# Altium schematic symbol library 4AE_LM_update.SCHLIB: 23 symbols
Pins are listed as number, name and electrical type; pins without a type are passive.

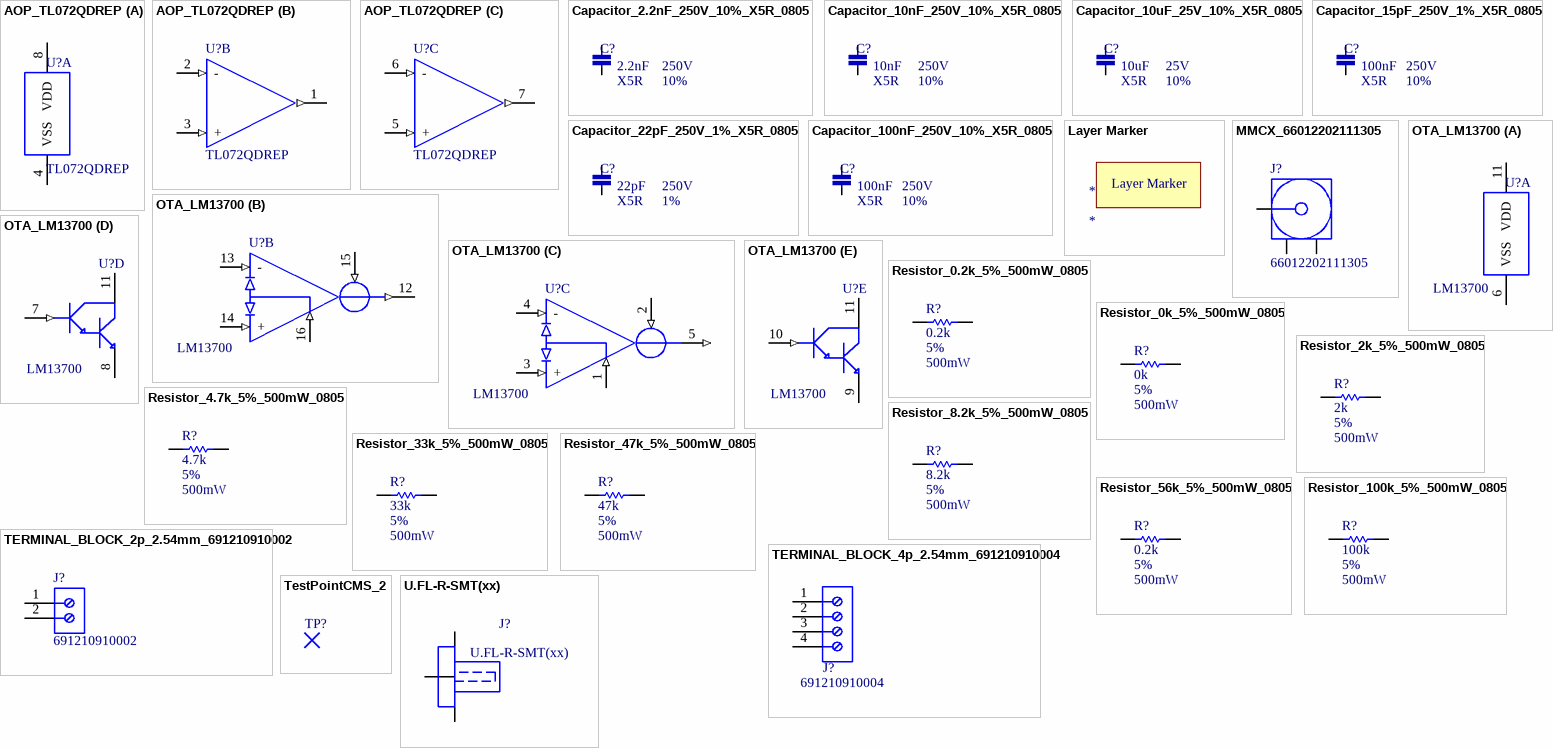
[diagram p0: symbols AOP_TL072QDREP to U.FL-R-SMT(xx)]

## AOP_TL072QDREP
designator U?  Ref: TL072QDREP  (hidden comment: AOP_TL072QDREP)
low noise Jfet input amplifier; Constructor: Texas Instruments; Type: Semiconductors
footprint SOIC8
part A pins: 4 VSS (power), 8 VDD (power)
part B pins: 1 outA (out), 2 - (in), 3 + (in)
part C pins: 5 + (in), 6 - (in), 7 outB (out)

## Capacitor_2.2nF_250V_10%_X5R_0805
designator C?  value 2.2nF  Tol: 10%  Tension: 250V  Tech: X5R
Capacitor 2.2nF 250V 10% X5R 0805; Constructor: KEMET; Type: Passive; Ref: C0805C104K1RACTU; Supplier 1: Arrow Electronics; Supplier Part Number 1: GRM21AR72E222KW01D
footprint 0805
pins: 1, 2

## Capacitor_10nF_250V_10%_X5R_0805
designator C?  value 10nF  Tol: 10%  Tension: 250V  Tech: X5R
Capacitor 10nF 250V 10% X5R 0805; Constructor: KEMET; Type: Passive; Ref: C0805C104K1RACTU; Supplier 1: Arrow Electronics; Supplier Part Number 1: GRM21BR72E103KW03L
footprint 0805
pins: 1, 2

## Capacitor_10uF_25V_10%_X5R_0805
designator C?  value 10uF  Tol: 10%  Tension: 25V  Tech: X5R
Capacitor 10uF 25V 10% X5R 0805; Constructor: KEMET; Type: Passive; Ref: C0805C104K1RACTU; Supplier 1: Arrow Electronics; Supplier Part Number 1: GRM21BR61E106KA73L
footprint 0805
pins: 1, 2

## Capacitor_15pF_250V_1%_X5R_0805
designator C?  value 100nF  Tol: 10%  Tension: 250V  Tech: X5R
Capacitor 15pF 250V 1% X5R 0805; Constructor: KEMET; Type: Passive; Ref: C0805C104K1RACTU; Supplier 1: Mouser; Supplier Part Number 1: 81-GRM21A5C2E150FW1D
footprint 0805
pins: 1, 2

## Capacitor_22pF_250V_1%_X5R_0805
designator C?  value 22pF  Tol: 1%  Tension: 250V  Tech: X5R
Capacitor 22pF 250V 10% X5R 0805; Constructor: KEMET; Type: Passive; Ref: C0805C104K1RACTU; Supplier 1: Mouser; Supplier Part Number 1: 81-GRM21A5C2E220FW1D
footprint 0805
pins: 1, 2

## Capacitor_100nF_250V_10%_X5R_0805
designator C?  value 100nF  Tol: 10%  Tension: 250V  Tech: X5R
Capacitor 100nF 250V 10% X5R 0805; Constructor: KEMET; Type: Passive; Ref: C0805C104K1RACTU; Supplier 1: Digi-Key; Supplier Part Number 1: 490-12005-1-ND
footprint 0805
pins: 1, 2

## Layer Marker
designator *  (no BOM)
Constructor: NA; Value: Layer Marker; Type: No Bom
footprint 2_Layer_Marker

## MMCX_66012202111305
designator J?  Ref: 66012202111305  (hidden comment: MMCX_66012202111305)
Connecteur MMCX  horizontal SMD; Constructor: Wurth; Type: Connector
footprint MMCX_66012202111305 (Footprint not found)
pins: 1 Signal "Signal Pin", 2 GND (power), 3 GND (power)

## OTA_LM13700
designator U?, comment LM13700
OTA; Constructor: Texas Instruments; Type: Semiconductors; Ref: LM13700
footprint SOIC16L
part A pins: 6 VSS (power), 11 VDD (power)
part B pins: 12 outA (out), 13 - (in), 14 + (in), 15 (in), 16 (in)
part C pins: 1 (in), 2 (in), 3 + (in), 4 - (in), 5 (in)
part D pins: 7 (in), 8 (power), 11 VDD (power)
part E pins: 9 (power), 10 (in), 11 VDD (power)

## Resistor_0.2k_5%_500mW_0805
designator R?  value 0.2k  Tol: 5%  Power: 500mW
Resistor  0.2k 5% 500mW 0805; Constructor: Panasonic; Ref: CRCW080510K0FKEA; Voltage: 150V; Type: Vishay; Supplier 1: Digi-Key; Supplier Part Number 1: 511-SDR10EZPJ200CT-ND
footprint 0805_RES
pins: 1, 2

## Resistor_0k_5%_500mW_0805
designator R?  value 0k  Tol: 5%  Power: 500mW
Resistor  0k 5% 500mW 0805; Constructor: Panasonic; Ref: CRCW080510K0FKEA; Voltage: 150V; Type: Vishay; Supplier 1: Digi-Key; Supplier Part Number 1: 511-PMR10EZPJ000CT-ND
footprint 0805_RES
pins: 1, 2

## Resistor_2k_5%_500mW_0805
designator R?  value 2k  Tol: 5%  Power: 500mW
Resistor  2k 5% 500mW 0805; Constructor: Panasonic; Ref: CRCW080510K0FKEA; Voltage: 150V; Type: Vishay; Supplier 1: Digi-Key; Supplier Part Number 1: 511-SDR10EZPJ202CT-ND
footprint 0805_RES
pins: 1, 2

## Resistor_4.7k_5%_500mW_0805
designator R?  value 4.7k  Tol: 5%  Power: 500mW
Resistor  4.7k 5% 500mW 0805; Constructor: Panasonic; Ref: CRCW080510K0FKEA; Voltage: 150V; Type: Vishay; Supplier 1: Digi-Key; Supplier Part Number 1: 511-SDR10EZPJ472CT-ND
footprint 0805_RES
pins: 1, 2

## Resistor_8.2k_5%_500mW_0805
designator R?  value 8.2k  Tol: 5%  Power: 500mW
Resistor  8.2k 5% 500mW 0805; Constructor: Panasonic; Ref: CRCW080510K0FKEA; Voltage: 150V; Type: Vishay; Supplier 1: Digi-Key; Supplier Part Number 1: 511-SFR10EZPF8201CT-ND
footprint 0805_RES
pins: 1, 2

## Resistor_33k_5%_500mW_0805
designator R?  value 33k  Tol: 5%  Power: 500mW
Resistor  33k 5% 500mW 0805; Constructor: Panasonic; Ref: CRCW080510K0FKEA; Voltage: 150V; Type: Vishay; Supplier 1: Digi-Key; Supplier Part Number 1: 511-SDR10EZPJ333CT-ND
footprint 0805_RES
pins: 1, 2

## Resistor_47k_5%_500mW_0805
designator R?  value 47k  Tol: 5%  Power: 500mW
Resistor  47k 5% 500mW 0805; Constructor: Panasonic; Ref: CRCW080510K0FKEA; Voltage: 150V; Type: Vishay; Supplier 1: Digi-Key; Supplier Part Number 1: 511-SDR10EZPJ473CT-ND
footprint 0805_RES
pins: 1, 2

## Resistor_56k_5%_500mW_0805
designator R?  value 0.2k  Tol: 5%  Power: 500mW
Resistor  56k 5% 500mW 0805; Constructor: Panasonic; Ref: CRCW080510K0FKEA; Voltage: 150V; Type: Vishay; Supplier 1: Digi-Key; Supplier Part Number 1: 511-SDR10EZPJ563CT-ND
footprint 0805_RES
pins: 1, 2

## Resistor_100k_5%_500mW_0805
designator R?  value 100k  Tol: 5%  Power: 500mW
Resistor  100k 5% 500mW 0805; Constructor: Panasonic; Ref: CRCW080510K0FKEA; Voltage: 150V; Type: Vishay; Supplier 1: Digi-Key; Supplier Part Number 1: 511-SDR10EZPD1003CT-ND
footprint 0805_RES
pins: 1, 2

## TERMINAL_BLOCK_2p_2.54mm_691210910002
designator J?  Ref: 691210910002  (hidden comment: TERMINAL_BLOCK_2p_2.54mm_691210910002)
WR-TBL Series 2109 - 2.54 mm Horiz. Entry; Constructor: Wurth electronik; Type: Connector
footprint TerminalBlock_2.54mm_2p_691210910002 (Footprint not found)
pins: 1, 2

## TERMINAL_BLOCK_4p_2.54mm_691210910004
designator J?  Ref: 691210910004  (hidden comment: TERMINAL_BLOCK_4p_2.54mm_691210910004)
WR-TBL Series 2109 - 2.54 mm Horiz. Entry; Constructor: Wurth electronik; Type: Connector
footprint TerminalBlock_2.54mm_4p_691210910004 (2,54mm - modular - green - Horizontal wire entry - Cage clamp - 0,8mm2 wires - 04p)
pins: 1, 2, 3, 4

## TestPointCMS_2
designator TP?  (value not drawn)  (no BOM)
footprint TestPoint_CMS_1mm
pins: 1

## U.FL-R-SMT(xx)
designator J?, comment Ref: U.FL-R-SMT(xx)  (hidden comment: Connecteur U.FL 0°)
Connecteur U.FL; Constructor: AMPHENOL RF; Type: Connector
footprint U.FL-R-SMT
pins: 1 GND, 2 GND, 3 ANT